# Altium schematic symbol library Schlib1.SchLib: 10 symbols
Pins are listed as number, name and electrical type; pins without a type are passive.

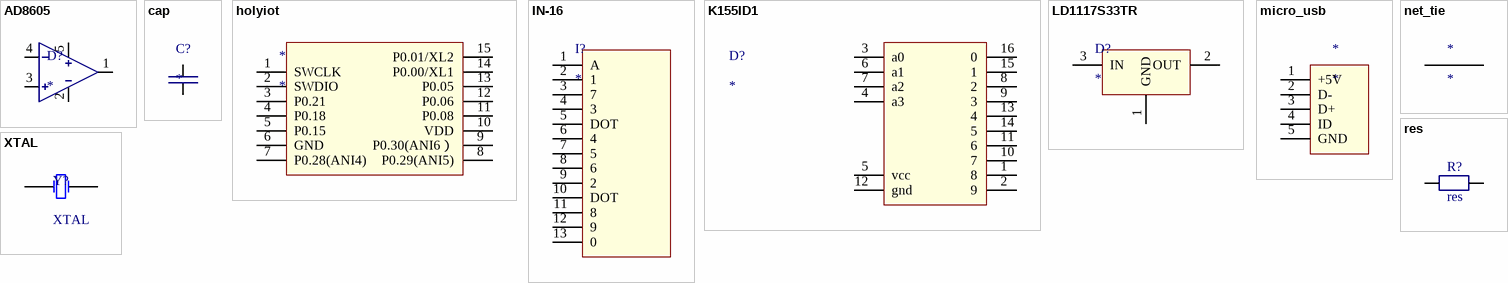
[diagram p0: symbols AD8605 to XTAL]

## AD8605
designator D?
footprint sot-23-5
pins: 1, 2, 3, 4, 5

## cap
designator C?
footprint CAP_0805
pins: 1, 2

## holyiot
designator *
footprint holyiot
pins: 1 SWCLK, 2 SWDIO, 3 P0.21, 4 P0.18, 5 P0.15, 6 GND, 7 P0.28(ANI4), 8 P0.29(ANI5), 9 P0.30(ANI6）, 10 VDD, 11 P0.08, 12 P0.06, 13 P0.05, 14 P0.00/XL1, 15 P0.01/XL2

## IN-16
designator I?
footprint IN-16
pins: 1 A, 2 1, 3 7, 4 3, 5 DOT, 6 4, 7 5, 8 6, 9 2, 10 DOT, 11 8, 12 9, 13 0

## K155ID1
designator D?
footprint DIP16
pins: 1 8, 2 9, 3 a0, 4 a3, 5 vcc, 6 a1, 7 a2, 8 2, 9 3, 10 7, 11 6, 12 gnd, 13 4, 14 5, 15 1, 16 0

## LD1117S33TR
designator D?
footprint SOT223_N (SOT223, 4-Leads, Body 6.5x3.5mm, Pitch 2.3mm, Lead Span 7mm, IPC Medium Density)
pins: 1 GND, 2 OUT, 3 IN, 4

## micro_usb
designator *
footprint MOLEX_47346-0001
pins: 1 +5V, 2 D-, 3 D+, 4 ID, 5 GND

## net_tie
designator *  (net tie, no BOM)
footprint net_tie
pins: 1, 2

## res
designator R?
footprint res_0805
pins: 1, 2

## XTAL
designator Y?
Crystal Oscillator; Published: 8-Jun-2000; LatestRevisionDate: 17-Jul-2002; LatestRevisionNote: Re-released for DXP Platform.; PackageReference: R38; Publisher: Altium Limited; PackageDescription: Crystal, Thru-Hole; 2 Leads; Body 3.1 x 8.2 mm (Dia.xH)
footprint R38 (Crystal, Thru-Hole; 2 Leads; Body 3.1 x 8.2 mm (Dia.xH))
simulation model XTAL (Spice Subcircuit)
footprint 32.768khz_quartz
pins: 1 OSC1, 2 OSC2